# Altium schematic symbol library Crystal Symbols.SchLib: 7 symbols
Pins are listed as number, name and electrical type; pins without a type are passive.

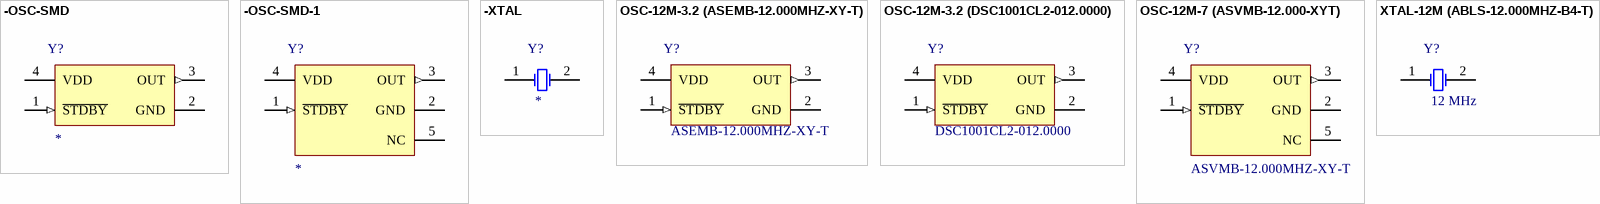
[diagram p0: symbols -OSC-SMD to XTAL-12M (ABLS-12.000MHZ-B4-T)]

## -OSC-SMD
designator Y?
SMD Oscillator, 4 Pin; Frequency: *; Value: *
pins: 1 ~{STDBY} (in), 2 GND (power), 3 OUT (out), 4 VDD (power)

## -OSC-SMD-1
designator Y?
SMD Oscillator, 4 pin with center pad; Frequency: *; Value: *
pins: 1 ~{STDBY} (in), 2 GND (power), 3 OUT (out), 4 VDD (power), 5 NC

## -XTAL
designator Y?
Crystal,; Value: *; Frequency: *
footprint HC-49US (SMD, 2-Leads, Body 11.4x4.7mm, Height 3.3mm)
pins: 1 X1, 2 X2

## OSC-12M-3.2 (ASEMB-12.000MHZ-XY-T)
designator Y?, comment ASEMB-12.000MHZ-XY-T
SMD Oscillator, 12MHz, 3.5x2.5mm, 105C; Frequency: 12.000MHz; Supplier 1: Mouser; Supplier Part Number 1: 815-ASEMB-12-XY-T; Value: ASEMB-12.000MHZ-XY-T
footprint OSC-SMD-3.2 (SMD, 4-Leads, Body 3.2x2.5mm, Pitch 2.1mm)
pins: 1 ~{STDBY} (in), 2 GND (power), 3 OUT (out), 4 VDD (power)

## OSC-12M-3.2 (DSC1001CL2-012.0000)
designator Y?, comment DSC1001CL2-012.0000
SMD Oscillator, 12MHz, 3.2x2.5mm, 105C; Frequency: 12.000MHz; Supplier 1: Mouser; Supplier Part Number 1: 998-1001CL2-012.0000; Value: DSC1001CL2-012.0000
footprint OSC-SMD-3.2 (SMD, 4-Leads, Body 3.2x2.5mm, Pitch 2.1mm)
pins: 1 ~{STDBY} (in), 2 GND (power), 3 OUT (out), 4 VDD (power)

## OSC-12M-7 (ASVMB-12.000-XYT)
designator Y?, comment ASVMB-12.000MHZ-XY-T
SMD Oscillator, 12MHz, 7x5mm, 105C; Frequency: 12.000MHz; Supplier 1: Mouser; Supplier Part Number 1: 815-ASVMB-12MXYT; Value: ASVMB-12.000MHZ-XY-T
footprint OSC-SMD-7.0-2 (SMD, 5-Leads, Body 7x5mm)
pins: 1 ~{STDBY} (in), 2 GND (power), 3 OUT (out), 4 VDD (power), 5 NC

## XTAL-12M (ABLS-12.000MHZ-B4-T)
designator Y?, comment 12 MHz
Crystal, 12 MHz; Supplier 1: Mouser; Supplier Part Number 1: 815-ABLS-12.0M-T; Value: *; Frequency: 12 MHz
footprint HC-49US (SMD, 2-Leads, Body 11.4x4.7mm, Height 3.3mm)
pins: 1 X1, 2 X2